# Altium schematic symbol library SCH - SWITCH - NIDEC COPAL CS-4-13NTA.SCHLIB: 1 symbol
Pins are listed as number, name and electrical type; pins without a type are passive.

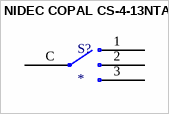
[diagram p0: symbol NIDEC COPAL CS-4-13NTA]

## NIDEC COPAL CS-4-13NTA
designator S?
pins: 1, 2, 3, C